# EAGLE library part IS31FL3196A (library Controller)
ISSI IS31FL3196A 6 channel (2 RGB channel) LED controller
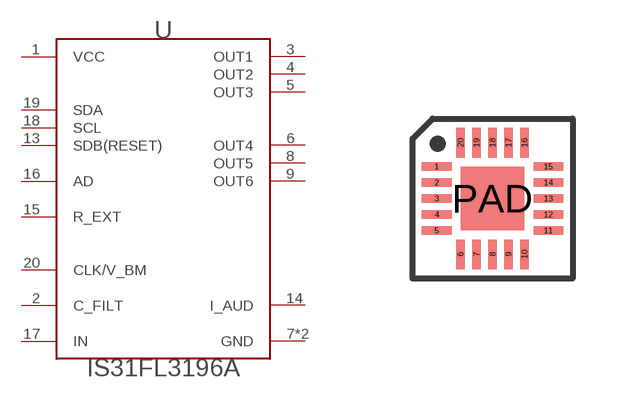
[diagram p29: symbol with the pads of QFN-20; footprint QFN-20]

Designator prefix U

## IS31FL3196A  [QFN-20]
1  VCC
2  C_FILT
3  OUT1
4  OUT2
5  OUT3
6  OUT4
7  GND
8  OUT5
9  OUT6
13  SDB(RESET)
14  I_AUD
15  R_EXT
16  AD
17  IN
18  SCL
19  SDA
20  CLK/V_BM
PAD  GND

## Footprint QFN-20 (pad centres in mm)
smd 0.74 x 0.22: 1 -1.395,0.8; 2 -1.395,0.4; 3 -1.395,0; 4 -1.395,-0.4; 5 -1.395,-0.8; 11 1.395,-0.8; 12 1.395,-0.4; 13 1.395,0; 14 1.395,0.4; 15 1.395,0.8
smd 0.22 x 0.74: 6 -0.8,-1.395; 7 -0.4,-1.395; 8 0,-1.395; 9 0.4,-1.395; 10 0.8,-1.395; 16 0.8,1.395; 17 0.4,1.395; 18 0,1.395; 19 -0.4,1.395; 20 -0.8,1.395
smd 1.58 x 1.58: PAD 0,0